# EAGLE library part LTC3569EUDC#TRPBF (library LTC3569EUDC#TRPBF)
Switching Voltage Regulators Programmable 1.2A and 2X600mA, Triple Buck Regulator Source: Datasheet <https://www.analog.com/media/en/technical-documentation/data-sheets/3569fe.pdf>
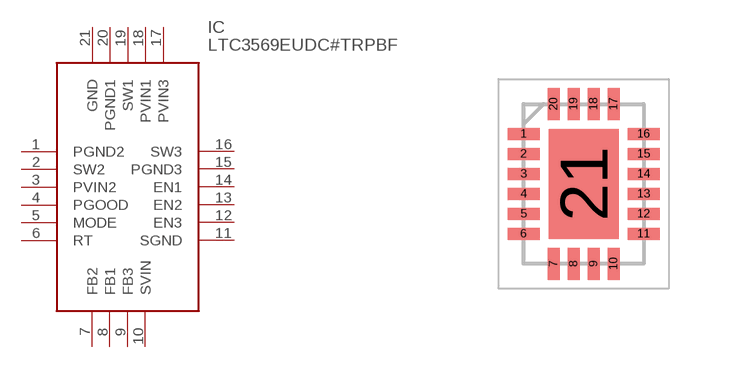
[diagram p0: symbol with the pads of QFN50P300X400X80-21N; footprint QFN50P300X400X80-21N]

Designator prefix IC

## LTC3569EUDC#TRPBF (Description: Switching Voltage Regulators Programmable 1.2A and 2X600mA, Triple Buck Regulator; Height: 0.8mm; Manufacturer_Name: Analog Devices; Manufacturer_Part_Number: LTC3569EUDC#TRPBF)  [QFN50P300X400X80-21N]
1  PGND2
2  SW2
3  PVIN2
4  PGOOD
5  MODE
6  RT
7  FB2
8  FB1
9  FB3
10  SVIN
11  SGND
12  EN3
13  EN2
14  EN1
15  PGND3
16  SW3
17  PVIN3
18  PVIN1
19  SW1
20  PGND1
21  GND

## Footprint QFN50P300X400X80-21N (pad centres in mm)
UDC Package 20-Lead Plastic QFN (3mm × 4mm)
smd 0.8 x 0.3: 1 -1.5,1.25; 2 -1.5,0.75; 3 -1.5,0.25; 4 -1.5,-0.25; 5 -1.5,-0.75; 6 -1.5,-1.25; 11 1.5,-1.25; 12 1.5,-0.75; 13 1.5,-0.25; 14 1.5,0.25; 15 1.5,0.75; 16 1.5,1.25
smd 0.3 x 0.8: 7 -0.75,-2; 8 -0.25,-2; 9 0.25,-2; 10 0.75,-2; 17 0.75,2; 18 0.25,2; 19 -0.25,2; 20 -0.75,2
smd 1.75 x 2.75: 21 0,0